# Altium schematic symbol library DIO-SCHOTTKY-1S-SOT23.Schlib: 1 symbol
Pins are listed as number, name and electrical type; pins without a type are passive.

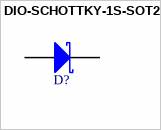
[diagram p0: symbol DIO-SCHOTTKY-1S-SOT23]

## DIO-SCHOTTKY-1S-SOT23
designator D?
Schottky Barrier Single Diode
pins: 1 A, 2 hidden, 3 k